# Altium footprint library DO-214AC.PcbLib: 1 footprints
Each footprint in its own frame and in the unit in brackets; x right, y up, seen from the top. Pads: shape width x height; smd on the part's side, far side on the other; paste and mask are expansions set on the pad; w line width, h text height; cw(c..) or ccw(c..) is an arc to the next point about the centre after c.
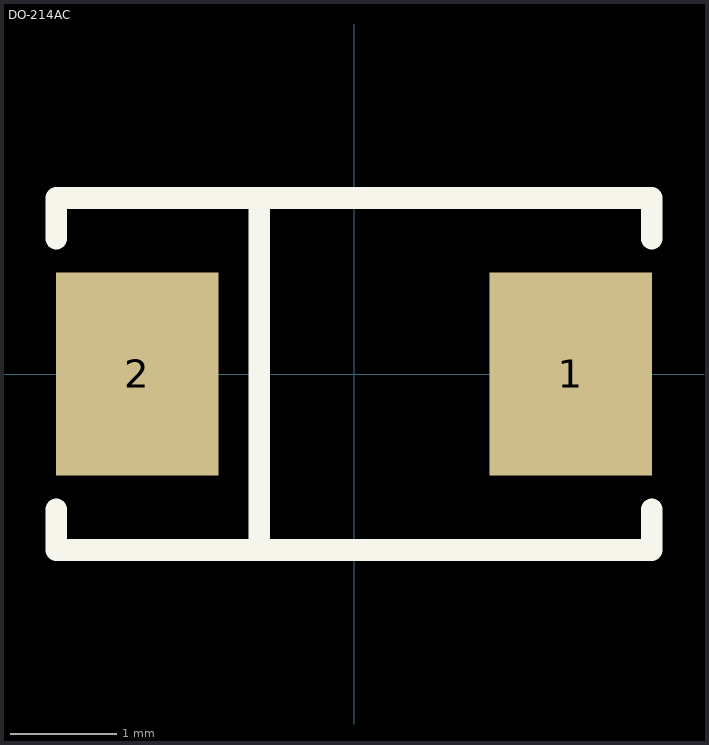
[diagram p0: the footprint, top view; thin cyan lines are the x and y axes]

## DO-214AC [mil]
pads (2):
  rect 60x75 smd: 1(79.99,0.01) 2(-80,0)
Top Overlay:
  lines w8: -110,-50 -110,-65 0,-65 110,-65 110,-50 ; -110,50 -110,65 0,65 110,65 110,50 ; -35,-65 -35,65
3D body: height 85, standoff 1, extent -100.5,-52.49 100.5,52.51